# EAGLE library part FDS6890A (library transistor-power)
Dual N-Channel 2.5V Specified PowerTrenchTM MOSFET Source: FDS6890A.pdf
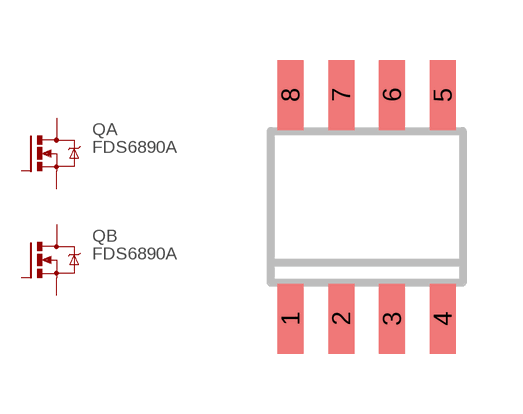
[diagram p2: symbol with the pads of M08A; footprint M08A]

Designator prefix Q; gates A=MFNS B=MFNS

## FDS6890A  [M08A]
1  A:S  pas
2  A:G  pas
3  B:S  pas
4  B:G  pas
5  B:D  pas
6  B:D  pas
7  A:D  pas
8  A:D  pas

## Footprint M08A (pad centres in mm)
FAIRCHILD SEMICONDUCTOR SOIC127P600X175-8M JEDEC MS-012. VARIATION AA. Source: http://www.fairchildsemi.com/dwg/M0/M08A.pdf
smd 0.65 x 1.75: 1 -1.905,-2.8; 2 -0.635,-2.8; 3 0.635,-2.8; 4 1.905,-2.8; 5 1.905,2.8; 6 0.635,2.8; 7 -0.635,2.8; 8 -1.905,2.8